# EAGLE library part 74*138 (library IC_Logic)
3-line to 8-line DECODER/DEMULTIPLEXER
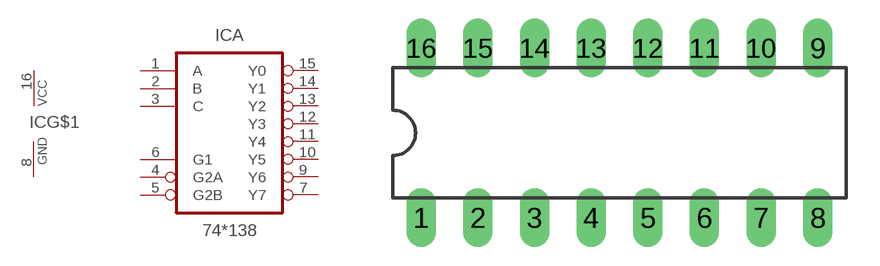
[diagram p26: symbol with the pads of DIL16; footprint DIL16]

Designator prefix IC; gates A=74138 G$1=PWRN

## 74LS138N (CATEGORY: IC_Logic; SUB-CATEGORY: Decoder; VALUE: 74138), 74S138N (CATEGORY: IC_Logic; SUB-CATEGORY: Decoder; VALUE: 74138)  [DIL16]
1  A:A  in
2  A:B  in
3  A:C  in
4  A:G2A  in
5  A:G2B  in
6  A:G1  in
7  A:Y7  out
8  G$1:GND  pwr
9  A:Y6  out
10  A:Y5  out
11  A:Y4  out
12  A:Y3  out
13  A:Y2  out
14  A:Y1  out
15  A:Y0  out
16  G$1:VCC  pwr

## Footprint DIL16 (pad centres in mm)
Dual In Line Package
drill 0.813 long: 1 -8.89,-3.81; 2 -6.35,-3.81; 3 -3.81,-3.81; 4 -1.27,-3.81; 5 1.27,-3.81; 6 3.81,-3.81; 7 6.35,-3.81; 8 8.89,-3.81; 9 8.89,3.81; 10 6.35,3.81; 11 3.81,3.81; 12 1.27,3.81; 13 -1.27,3.81; 14 -3.81,3.81; 15 -6.35,3.81; 16 -8.89,3.81